# Altium footprint library FootPrintLib_6.PcbLib: 588 footprints (part 12 of 37)
Each footprint in its own frame and in the unit in brackets; x right, y up, seen from the top. Pads: shape width x height; smd on the part's side, far side on the other; paste and mask are expansions set on the pad; w line width, h text height; cw(c..) or ccw(c..) is an arc to the next point about the centre after c.
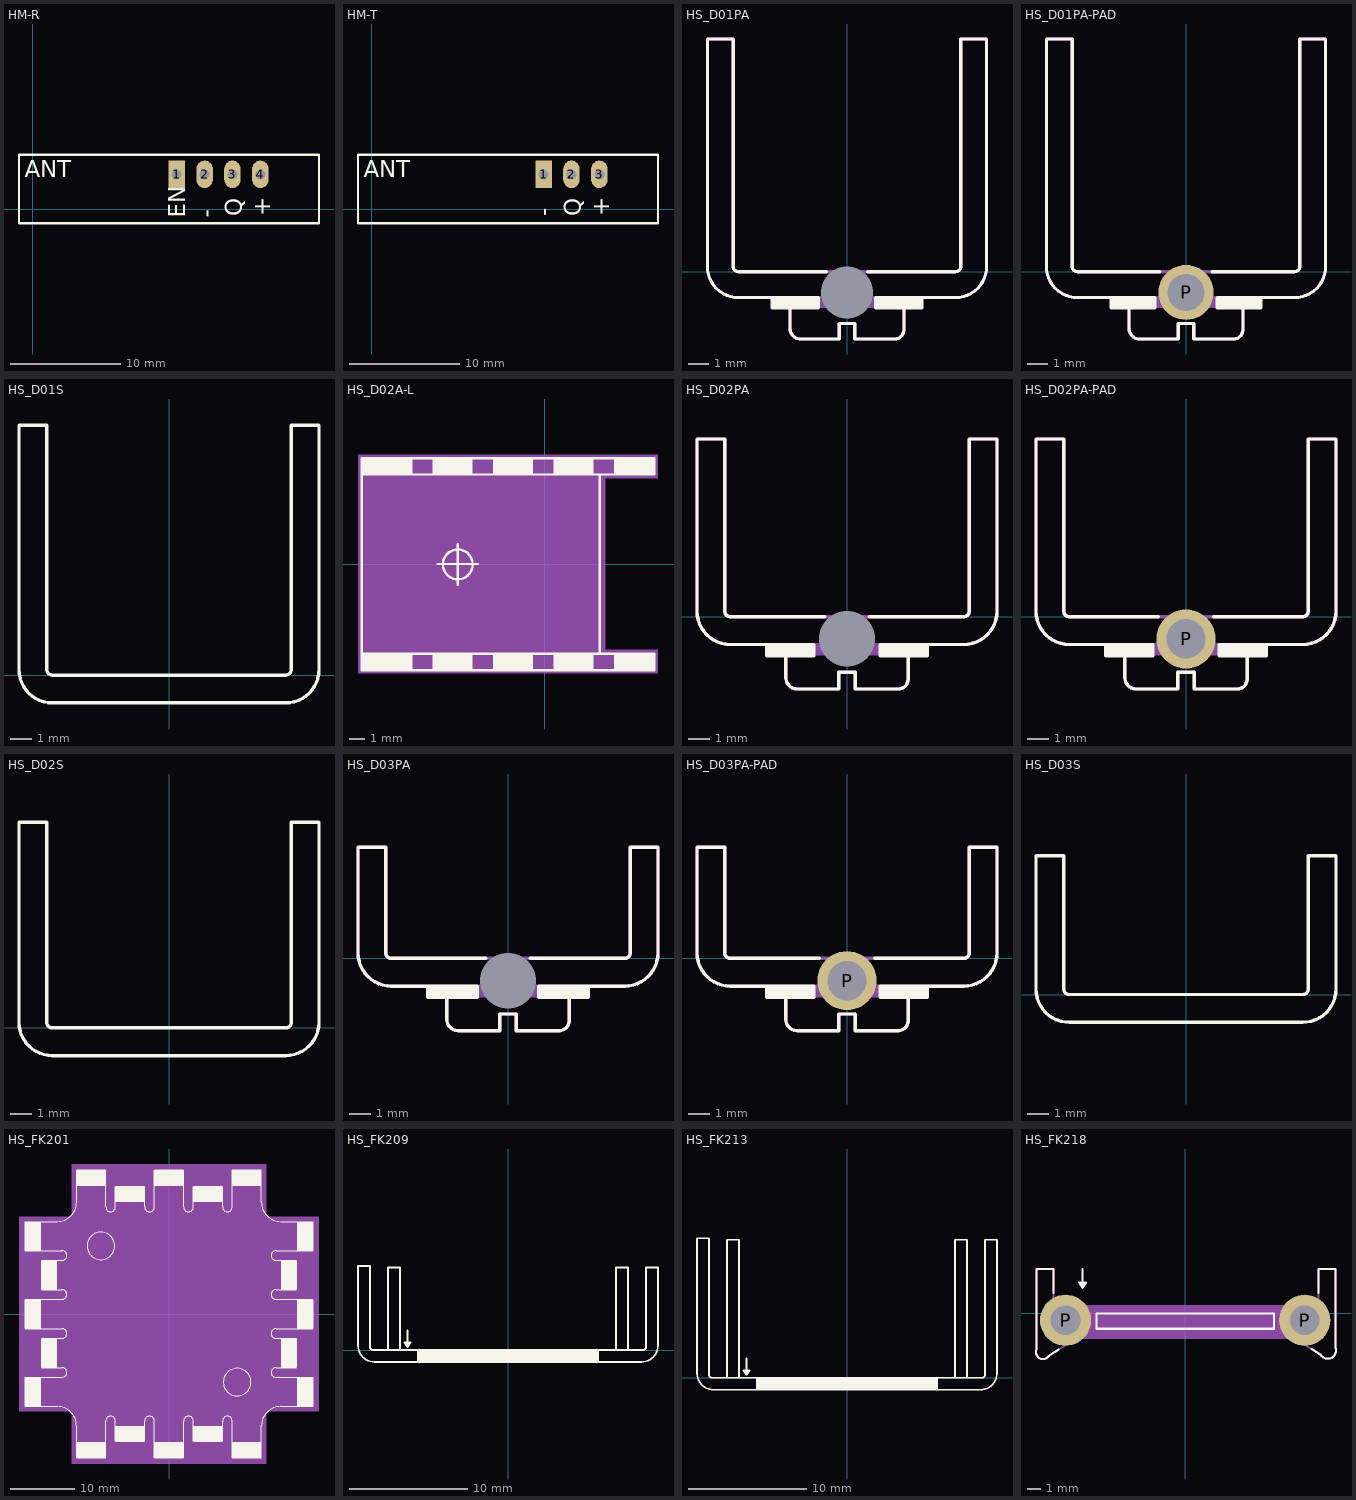
[diagram p11: the footprints below, top view; thin cyan lines are the x and y axes]

## HM-R [mm] "Connector; Header; 4 Position"
pads (4):
  rect 1.5x2.5 hole 0.9: 1(13.081,3.175)
  oval 1.5x2.5 hole 0.9: 2(15.621,3.175) 3(18.161,3.175) 4(20.701,3.175)
Top Overlay:
  lines w0.2: 26,-1.27 -1.27,-1.27 -1.27,4.953 26.035,4.953 26.035,-1.27
  text "ANT" at -0.762,2.921 h1.52
  text "+" at 21.59,-0.635 h1.52
  text "Q" at 19.05,-0.635 h1.52
  text "-" at 16.51,-0.762 h1.52
  text "EN" at 13.843,-0.762 h1.52

## HM-T [mm] "Connector; Header; 3 Position"
pads (3):
  rect 1.5x2.5 hole 0.9: 1(15.621,3.175)
  oval 1.5x2.5 hole 0.9: 2(18.161,3.175) 3(20.701,3.175)
Top Overlay:
  lines w0.2: 26,-1.27 -1.27,-1.27 -1.27,4.953 26.035,4.953 26.035,-1.27
  text "ANT" at -0.762,2.921 h1.52
  text "+" at 21.59,-0.635 h1.52
  text "Q" at 19.05,-0.635 h1.52
  text "-" at 16.383,-0.635 h1.52

## HS_D01PA [mil]
pads (2):
  round 0 hole 100 unplated: MH(0,-40) MH(0,-40)
Top Overlay:
  rectangle: 55,-70 145,-50
  rectangle: -145,-70 -55,-50
  lines w6: -145,-50 -145,-70 -55,-70 -55,-50 -210,-50 cw(c-210,10) -270,10 -270,450 -220,450 -220,10 ccw(c-210,10) -210,0 -40,0 ; -110,-50 -110,-110 ccw(c-90,-110) -90,-130 -15,-130 -15,-100 15,-100 15,-130 90,-130 ccw(c92,-112) 110.04,-110.43 ; 40,0 210,0 ccw(c210,10) 220,10 220,450 270,450 270,10 cw(c210,10) 210,-50 55,-50 55,-70 145,-70 145,-50 ; 110,-110 110,-50
Mechanical 2:
  rectangle: -145,-70 -55,-50
  rectangle: 55,-70 145,-50
  rectangle: -55,-70 55,-50
  lines w6: -110,-50 -110,-110 ccw(c-90,-110) -90,-130 -15,-130 -15,-100 15,-100 15,-130 90,-130 ccw(c92,-112) 110.04,-110.43 ; 110,-110 110,-50 ; -270,10 ccw(c-210,10) -210,-50 -55,-50 55,-50 210,-50 ccw(c210,10) 270,10 270,450 220,450 220,10 cw(c210,10) 210,0 40,0 -40,0 -210,0 cw(c-210,10) -220,10 -220,450 -270,450 -270,10

## HS_D01PA-PAD [mil]
pads (1):
  round 106.5 hole 71: P(0,-40)
Top Overlay:
  rectangle: -145,-70 -60,-50
  rectangle: 60,-70 145,-50
  lines w6: -145,-50 -145,-70 -60,-70 -60,-50 -210,-50 cw(c-210,10) -270,10 -270,450 -220,450 -220,10 ccw(c-210,10) -210,0 -50,0 ; -110,-50 -110,-110 ccw(c-90,-110) -90,-130 -15,-130 -15,-100 15,-100 15,-130 90,-130 ccw(c92,-112) 110.04,-110.43 ; 50,0 210,0 ccw(c210,10) 220,10 220,450 270,450 270,10 cw(c210,10) 210,-50 60,-50 60,-70 80,-70 145,-70 145,-50 ; 110,-110 110,-50
Mechanical 2:
  rectangle: -55,-70 55,-50
  rectangle: 55,-70 145,-50
  rectangle: -145,-70 -55,-50
  lines w6: -110,-50 -110,-110 ccw(c-90,-110) -90,-130 -15,-130 -15,-100 15,-100 15,-130 90,-130 ccw(c92,-112) 110.04,-110.43 ; 110,-110 110,-50 ; -270,10 ccw(c-210,10) -210,-50 -55,-50 55,-50 210,-50 ccw(c210,10) 270,10 270,450 220,450 220,10 cw(c210,10) 210,0 40,0 -40,0 -210,0 cw(c-210,10) -220,10 -220,450 -270,450 -270,10

## HS_D01S [mm]
Top Overlay:
  lines w0.152: -6.858,0.254 ccw(c-5.334,0.254) -5.334,-1.27 5.334,-1.27 ccw(c5.334,0.254) 6.858,0.254 6.858,11.43 5.588,11.43 5.588,0.254 cw(c5.334,0.254) 5.334,0 -5.334,0 cw(c-5.334,0.254) -5.588,0.254 -5.588,11.43 -6.858,11.43 -6.858,0.254

## HS_D02A-L [mm]
Top Overlay:
  circle w0.152: c-5.461,-0.025 r0.94
  rectangle: 4.369,-6.68 6.909,-5.664
  rectangle: 0.559,-6.68 3.099,-5.664
  rectangle: -3.251,-6.68 -0.711,-5.664
  rectangle: -7.061,-6.68 -4.521,-5.664
  rectangle: -11.506,-6.68 -8.331,-5.664
  rectangle: -11.506,5.639 -8.331,6.655
  rectangle: -7.061,5.639 -4.521,6.655
  rectangle: -3.251,5.639 -0.711,6.655
  rectangle: 0.559,5.639 3.099,6.655
  rectangle: 4.369,5.639 6.909,6.655
  lines w0.152: -6.731,0 -4.191,0 ; -5.461,-1.295 -5.461,1.245 ; -11.506,-5.664 -11.506,-6.68 6.909,-6.68 6.909,-5.664 3.48,-5.664 ; -11.506,-5.664 -11.506,5.639 ; -11.506,-5.664 3.48,-5.664 ; -11.506,5.639 -11.506,6.655 6.909,6.655 6.909,5.639 3.48,5.639 ; -11.506,5.639 3.48,5.639 ; 3.48,-5.664 3.48,5.639
Mechanical 2:
  rectangle: -11.75,-6.899 3.85,6.901
  rectangle: 3.6,5.4 7.15,6.901
  rectangle: 3.6,-6.899 7.15,-5.4
  rectangle: -11.75,-6.899 3.85,6.901
  rectangle: 3.6,5.4 7.15,6.901
  rectangle: 3.6,-6.899 7.15,-5.4

## HS_D02PA [mil]
pads (1):
  round 0 hole 100 unplated: MH(0,-40)
Top Overlay:
  rectangle: 60,-70 145,-50
  rectangle: -145,-70 -60,-50
  lines w6: -145,-50 -145,-70 -60,-70 -60,-50 -210,-50 cw(c-210,10) -270,10 -270,320 -220,320 -220,10 ccw(c-210,10) -210,0 -40,0 ; -110,-50 -110,-110 ccw(c-90,-110) -90,-130 -15,-130 -15,-100 15,-100 15,-130 90,-130 ccw(c92,-112) 110.04,-110.43 ; 40,0 210,0 ccw(c210,10) 220,10 220,320 270,320 270,10 cw(c210,10) 210,-50 60,-50 60,-70 145,-70 145,-50 ; 110,-110 110,-50
Mechanical 2:
  rectangle: -145,-70 -55,-50
  rectangle: 55,-70 145,-50
  rectangle: -55,-70 55,-50
  lines w6: -110,-50 -110,-110 ccw(c-90,-110) -90,-130 -15,-130 -15,-100 15,-100 15,-130 90,-130 ccw(c92,-112) 110.04,-110.43 ; 110,-110 110,-50 ; -270,10 ccw(c-210,10) -210,-50 -55,-50 55,-50 210,-50 ccw(c210,10) 270,10 270,320 220,320 220,10 cw(c210,10) 210,0 40,0 -40,0 -210,0 cw(c-210,10) -220,10 -220,320 -270,320 -270,10

## HS_D02PA-PAD [mil]
pads (1):
  round 106.5 hole 71: P(0,-40)
Top Overlay:
  rectangle: -145,-70 -60,-50
  rectangle: 60,-70 145,-50
  lines w6: -145,-50 -145,-70 -60,-70 -60,-50 -210,-50 cw(c-210,10) -270,10 -270,320 -220,320 -220,10 ccw(c-210,10) -210,0 -50,0 ; -110,-50 -110,-110 ccw(c-90,-110) -90,-130 -15,-130 -15,-100 15,-100 15,-130 90,-130 ccw(c92,-112) 110.04,-110.43 ; 50,0 210,0 ccw(c210,10) 220,10 220,320 270,320 270,10 cw(c210,10) 210,-50 60,-50 60,-70 145,-70 145,-50 ; 110,-110 110,-50
Mechanical 2:
  rectangle: -55,-70 55,-50
  rectangle: 55,-70 145,-50
  rectangle: -145,-70 -55,-50
  lines w6: -110,-50 -110,-110 ccw(c-90,-110) -90,-130 -15,-130 -15,-100 15,-100 15,-130 90,-130 ccw(c92,-112) 110.04,-110.43 ; 110,-110 110,-50 ; -270,10 ccw(c-210,10) -210,-50 -55,-50 55,-50 210,-50 ccw(c210,10) 270,10 270,320 220,320 220,10 cw(c210,10) 210,0 40,0 -40,0 -210,0 cw(c-210,10) -220,10 -220,320 -270,320 -270,10

## HS_D02S [mm]
Top Overlay:
  lines w0.152: -6.858,0.254 ccw(c-5.334,0.254) -5.334,-1.27 5.334,-1.27 ccw(c5.334,0.254) 6.858,0.254 6.858,9.398 5.588,9.398 5.588,0.254 cw(c5.334,0.254) 5.334,0 -5.334,0 cw(c-5.334,0.254) -5.588,0.254 -5.588,9.398 -6.858,9.398 -6.858,0.254

## HS_D03PA [mil]
pads (1):
  round 0 hole 100 unplated: MH(0,-40)
Top Overlay:
  rectangle: -145,-70 -55,-50
  rectangle: 55,-70 145,-50
  lines w6: -145,-50 -145,-70 -55,-70 -55,-50 -210,-50 cw(c-210,10) -270,10 -270,200 -220,200 -220,10 ccw(c-210,10) -210,0 -40,0 ; -110,-50 -110,-110 ccw(c-90,-110) -90,-130 -15,-130 -15,-100 15,-100 15,-130 90,-130 ccw(c92,-112) 110.04,-110.43 ; 40,0 210,0 ccw(c210,10) 220,10 220,200 270,200 270,10 cw(c210,10) 210,-50 55,-50 55,-70 145,-70 145,-50 ; 110,-110 110,-50
Mechanical 2:
  rectangle: -55,-70 55,-50
  rectangle: 55,-70 145,-50
  rectangle: -145,-70 -55,-50
  lines w6: -110,-50 -110,-110 ccw(c-90,-110) -90,-130 -15,-130 -15,-100 15,-100 15,-130 90,-130 ccw(c92,-112) 110.04,-110.43 ; 110,-110 110,-50 ; -270,10 ccw(c-210,10) -210,-50 -55,-50 55,-50 210,-50 ccw(c210,10) 270,10 270,200 220,200 220,10 cw(c210,10) 210,0 40,0 -40,0 -210,0 cw(c-210,10) -220,10 -220,200 -270,200 -270,10

## HS_D03PA-PAD [mil]
pads (1):
  round 106.5 hole 71: P(0,-40)
Top Overlay:
  rectangle: 60,-70 145,-50
  rectangle: -145,-70 -60,-50
  lines w6: -145,-50 -145,-70 -80,-70 -60,-70 -60,-50 -210,-50 cw(c-210,10) -270,10 -270,200 -220,200 -220,10 ccw(c-210,10) -210,0 -50,0 ; -110,-50 -110,-110 ccw(c-90,-110) -90,-130 -15,-130 -15,-100 15,-100 15,-130 90,-130 ccw(c92,-112) 110.04,-110.43 ; 50,0 210,0 ccw(c210,10) 220,10 220,200 270,200 270,10 cw(c210,10) 210,-50 60,-50 60,-70 145,-70 145,-50 ; 110,-110 110,-50
Mechanical 2:
  rectangle: -145,-70 -55,-50
  rectangle: 55,-70 145,-50
  rectangle: -55,-70 55,-50
  lines w6: -110,-50 -110,-110 ccw(c-90,-110) -90,-130 -15,-130 -15,-100 15,-100 15,-130 90,-130 ccw(c92,-112) 110.04,-110.43 ; 110,-110 110,-50 ; -270,10 ccw(c-210,10) -210,-50 -55,-50 55,-50 210,-50 ccw(c210,10) 270,10 270,200 220,200 220,10 cw(c210,10) 210,0 40,0 -40,0 -210,0 cw(c-210,10) -220,10 -220,200 -270,200 -270,10

## HS_D03S [mm]
Top Overlay:
  lines w0.152: -6.858,0.254 ccw(c-5.334,0.254) -5.334,-1.27 5.334,-1.27 ccw(c5.334,0.254) 6.858,0.254 6.858,6.35 5.588,6.35 5.588,0.254 cw(c5.334,0.254) 5.334,0 -5.334,0 cw(c-5.334,0.254) -5.588,0.254 -5.588,6.35 -6.858,6.35 -6.858,0.254

## HS_FK201 [mm]
Top Overlay:
  circle w0.152: c-10.668,10.668 r2.159
  circle w0.152: c10.668,-10.668 r2.159
  rectangle: -8.382,17.526 -3.81,20.066
  rectangle: -14.478,20.066 -9.906,22.606
  rectangle: -20.066,3.81 -17.526,8.382
  rectangle: -22.606,9.906 -20.066,14.478
  rectangle: 3.81,-20.066 8.382,-17.526
  rectangle: 9.906,-22.606 14.478,-20.066
  rectangle: 17.526,-8.382 20.066,-3.81
  rectangle: 20.066,-14.478 22.606,-9.906
  rectangle: -20.066,-8.382 -17.526,-3.81
  rectangle: -22.606,-14.478 -20.066,-9.906
  rectangle: -22.606,-2.286 -20.066,2.286
  rectangle: -8.382,-20.066 -3.81,-17.526
  rectangle: -2.286,-22.606 2.286,-20.066
  rectangle: -14.478,-22.606 -9.906,-20.066
  rectangle: 17.526,3.81 20.066,8.382
  rectangle: 20.066,9.906 22.606,14.478
  rectangle: 20.066,-2.286 22.606,2.286
  rectangle: 3.81,17.526 8.382,20.066
  rectangle: -2.286,20.066 2.286,22.606
  rectangle: 9.906,20.066 14.478,22.606
  lines w0.152: -22.479,-14.478 -17.526,-14.478 cw(c-17.526,-17.526) -14.478,-17.526 -14.478,-22.479 ; -22.479,-9.906 -16.764,-9.906 ccw(c-16.764,-9.144) -16.764,-8.382 -19.939,-8.382 ; -22.479,-2.286 -16.764,-2.286 cw(c-16.764,-3.048) -16.764,-3.81 -19.939,-3.81 ; -22.479,2.286 -16.764,2.286 ccw(c-16.764,3.048) -16.764,3.81 -19.939,3.81 ; -22.479,9.906 -16.764,9.906 cw(c-16.764,9.144) -16.764,8.382 -19.939,8.382 ; -22.479,14.478 -17.526,14.478 ccw(c-17.526,17.526) -14.478,17.526 -14.478,22.479 ; -9.906,-22.479 -9.906,-16.764 cw(c-9.144,-16.764) -8.382,-16.764 -8.382,-19.939 ; -9.906,22.479 -9.906,16.764 ccw(c-9.144,16.764) -8.382,16.764 -8.382,19.939 ; -3.81,-19.939 -3.81,-16.764 cw(c-3.048,-16.764) -2.286,-16.764 -2.286,-22.479 ; -3.81,19.939 -3.81,16.764 ccw(c-3.048,16.764) -2.286,16.764 -2.286,22.479 ; 2.286,-22.479 2.286,-16.764 cw(c3.048,-16.764) 3.81,-16.764 3.81,-19.939 ; 2.286,22.479 2.286,16.764 ccw(c3.048,16.764) 3.81,16.764 3.81,19.939 ; 8.382,-19.939 8.382,-16.764 cw(c9.144,-16.764) 9.906,-16.764 9.906,-22.479 ; 8.382,19.939 8.382,16.764 ccw(c9.144,16.764) 9.906,16.764 9.906,22.479 ; 14.478,-22.479 14.478,-17.526 cw(c17.526,-17.526) 17.526,-14.478 22.479,-14.478 ; 14.478,22.479 14.478,17.526 ccw(c17.526,17.526) 17.526,14.478 22.479,14.478 ; 19.939,-8.382 16.764,-8.382 ccw(c16.764,-9.144) 16.764,-9.906 22.479,-9.906 ; 19.939,-3.81 16.764,-3.81 cw(c16.764,-3.048) 16.764,-2.286 22.479,-2.286 ; 19.939,3.81 16.764,3.81 ccw(c16.764,3.048) 16.764,2.286 22.479,2.286 ; 19.939,8.382 16.764,8.382 cw(c16.764,9.144) 16.764,9.906 22.479,9.906
Mechanical 2:
  rectangle: -15.24,-23.495 15.24,23.495
  rectangle: -23.495,-15.24 23.495,15.24
  rectangle: -15.24,-23.495 15.24,23.495
  rectangle: -23.495,-15.24 23.495,15.24

## HS_FK209 [mm]
Top Overlay:
  rectangle: -7.62,-1.016 7.62,0
  region: -8.763,0.635 -8.255,0.635 -8.509,0.254
  lines w0.152: -8.509,1.651 -8.509,0.635 ; -10.16,0 -10.16,6.985 -9.144,6.985 -9.144,0 ; -10.16,0 -11.43,0 cw(c-11.43,0.254) -11.684,0.254 -11.684,7.112 -12.7,7.112 -12.7,0.381 ccw(c-11.303,0.381) -11.303,-1.016 -7.62,-1.016 ; -10.16,0 -9.144,0 ; -9.144,0 -7.62,0 ; -8.509,0.635 -8.763,0.635 -8.509,0.254 -8.255,0.635 -8.509,0.635 ; -7.62,-1.016 -7.62,0 ; -7.62,-1.016 7.62,-1.016 ; -7.62,0 7.62,0 ; 7.62,-1.016 7.62,0 ; 7.62,-1.016 11.303,-1.016 ccw(c11.303,0.381) 12.7,0.381 12.7,6.985 11.684,6.985 11.684,0.254 cw(c11.43,0.254) 11.43,0 10.16,0 ; 7.62,0 9.144,0 ; 9.144,0 9.144,6.985 10.16,6.985 10.16,0 ; 9.144,0 10.16,0

## HS_FK213 [mm]
Top Overlay:
  rectangle: -7.62,-1.016 7.62,0
  region: -8.763,0.635 -8.255,0.635 -8.509,0.254
  lines w0.152: -8.509,1.651 -8.509,0.635 ; -10.16,0 -9.144,0 ; -10.16,0 -11.43,0 cw(c-11.43,0.254) -11.684,0.254 -11.684,11.811 -12.7,11.811 -12.7,0.381 ccw(c-11.303,0.381) -11.303,-1.016 -7.62,-1.016 ; -10.16,0 -10.16,11.684 -9.144,11.684 -9.144,0 ; -9.144,0 -7.62,0 ; -8.509,0.635 -8.763,0.635 -8.509,0.254 -8.255,0.635 -8.509,0.635 ; -7.62,-1.016 7.62,-1.016 ; -7.62,-1.016 -7.62,0 ; -7.62,0 7.62,0 ; 7.62,-1.016 11.303,-1.016 ccw(c11.303,0.381) 12.7,0.381 12.7,11.684 11.684,11.684 11.684,0.254 cw(c11.43,0.254) 11.43,0 10.16,0 ; 7.62,-1.016 7.62,0 ; 7.62,0 9.144,0 ; 9.144,0 10.16,0 ; 9.144,0 9.144,11.684 10.16,11.684 10.16,0

## HS_FK218 [mil]
pads (2):
  round 150 hole 87: P(-350,-20) P(350,-20)
Top Overlay:
  region: -310,90 -290,90 -300,75
  lines w6: -435,-105 -435,130 -385,130 -385,60 ; -434.67,-105.12 ccw(c-416.15,-113.3) -399.61,-124.99 -370,-105.8 ; -300,130 -300,90 ; 370,-104.38 395,-120 ; 390,60 390,130 440,130 440,-100 cw(c417,-108.2) 395.67,-120.08 ; -300,90 -290,90 -300,75 -310,90 -300,90 ; -260,-45 -260,0 260,0 260,-45 -260,-45
Mechanical 1:
  rectangle: -300,-75 300,25
Mechanical 2:
  lines w6: -435,-105 -435,130 -385,130 -385,50 -385,0 ; -434.67,-105.12 ccw(c-416.15,-113.3) -399.61,-124.99 ; -400,-125 -275,-45 ; 395,-120 275,-45 ; 395.67,-120.08 ccw(c417,-108.2) 440,-100 440,130 390,130 390,45 390,0 ; -385,-45 -385,-65 -345,-45 ; -385,-45 -345,-45 ; -385,-45 -385,0 ; -385,0 -275,0 ; -345,-45 -275,-45 ; -275,-45 -275,0 ; -275,-45 275,-45 ; -275,0 275,0 ; 275,-45 355,-45 ; 275,-45 275,0 ; 275,0 390,0 ; 355,-45 390,-65 390,-45 ; 355,-45 390,-45 ; 390,-45 390,0